# Altium footprint library SmartHalo_Footprints.PcbLib: 114 footprints (part 4 of 8)
Each footprint in its own frame and in the unit in brackets; x right, y up, seen from the top. Pads: shape width x height; smd on the part's side, far side on the other; paste and mask are expansions set on the pad; w line width, h text height; cw(c..) or ccw(c..) is an arc to the next point about the centre after c.
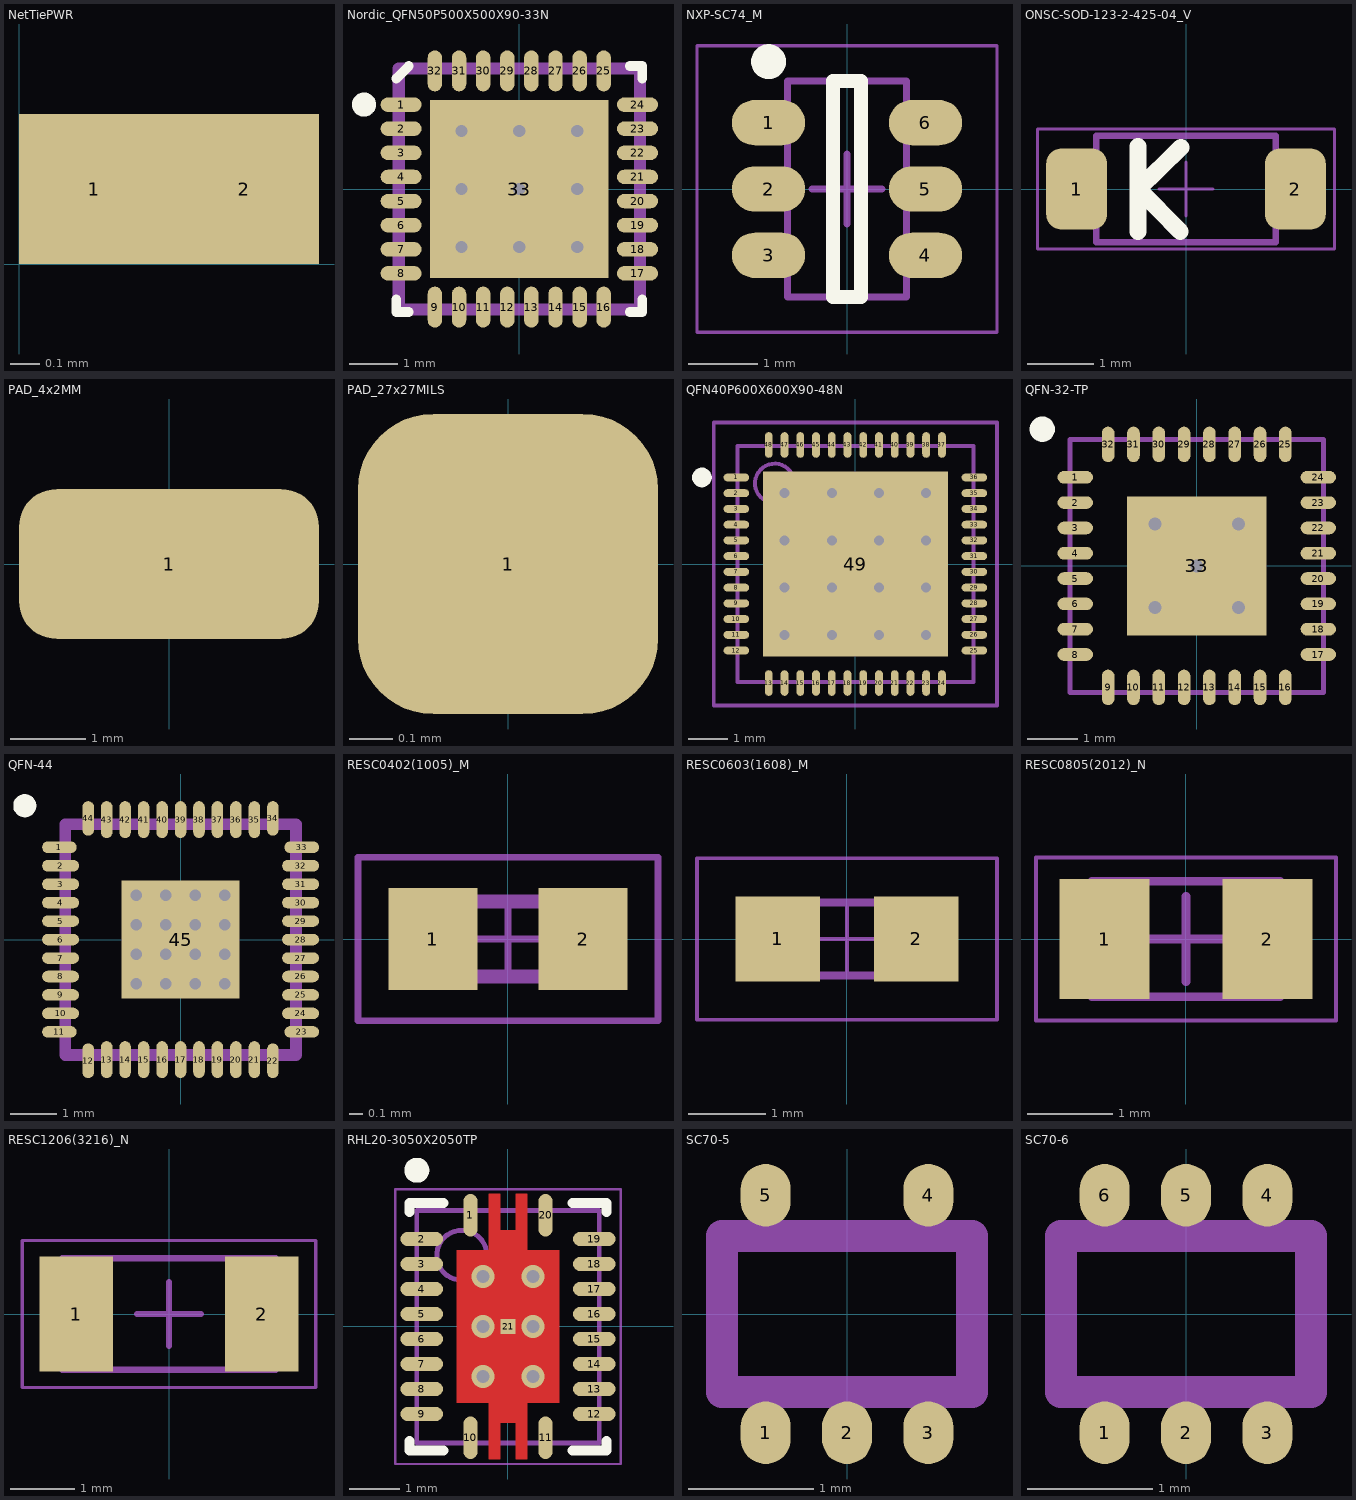
[diagram p3: the footprints below, top view; thin cyan lines are the x and y axes]

## NetTiePWR [mil] "NetTie for Power Nets"
pads (2):
  rect 20x20 smd paste-10 mask+0: 1(10,10) 2(30,10)

## Nordic_QFN50P500X500X90-33N [mm] "QFN, 32-Leads, Body 5.0x5.0mm, Pitch 0.5mm, Thermal Pad 3.6x3.6mm"
height 0.85
pads (33):
  oval 0.85x0.3 smd mask+0.076: 1(-2.45,1.75) 2(-2.45,1.25) 3(-2.45,0.75) 4(-2.45,0.25) 5(-2.45,-0.25) 6(-2.45,-0.75) 7(-2.45,-1.25) 8(-2.45,-1.75) 17(2.45,-1.75) 18(2.45,-1.25) 19(2.45,-0.75) 20(2.45,-0.25) 21(2.45,0.25) 22(2.45,0.75) 23(2.45,1.25) 24(2.45,1.75)
  oval 0.3x0.85 smd mask+0.076: 9(-1.75,-2.45) 10(-1.25,-2.45) 11(-0.75,-2.45) 12(-0.25,-2.45) 13(0.25,-2.45) 14(0.75,-2.45) 15(1.25,-2.45) 16(1.75,-2.45) 25(1.75,2.45) 26(1.25,2.45) 27(0.75,2.45) 28(0.25,2.45) 29(-0.25,2.45) 30(-0.75,2.45) 31(-1.25,2.45) 32(-1.75,2.45)
  rect 3.7x3.7 smd mask+0: 33(0,0)
via 0,1.2 diameter 0.457 hole 0.254
via -1.2,1.2 diameter 0.457 hole 0.254
via -1.2,0 diameter 0.457 hole 0.254
via -1.2,-1.2 diameter 0.457 hole 0.254
via 0,-1.2 diameter 0.457 hole 0.254
via 1.2,-1.2 diameter 0.457 hole 0.254
via 1.2,0 diameter 0.457 hole 0.254
via 1.2,1.2 diameter 0.457 hole 0.254
via 0,0 diameter 0.457 hole 0.254
Top Overlay:
  circle w0.25: c-3.22,1.75 r0.125
  lines w0.2: -2.55,-2.29 -2.55,-2.55 -2.29,-2.55 ; -2.55,2.29 -2.29,2.55 ; 2.29,-2.55 2.55,-2.55 2.55,-2.29 ; 2.29,2.55 2.55,2.55 2.55,2.29
3D Top:
  lines w0.254: -2.5,-2.5 2.5,-2.5 2.5,2.5 -2.5,2.5 -2.5,-2.5
3D body: height 0.85, standoff 0, extent -2.5,-2.5 2.5,2.5

## NXP-SC74_M [mm] "SOT23, 6-Leads, Body 2.9x1.6mm, Pitch 0.95mm, IPC Low Density"
height 1.1
pads (6):
  oval 1.05x0.65 smd: 1(-1.125,0.95) 2(-1.125,0) 3(-1.125,-0.95) 4(1.125,-0.95) 5(1.125,0) 6(1.125,0.95)
Top Overlay:
  circle w0.25: c-1.125,1.825 r0.125
  lines w0.2: -0.2,-1.55 -0.2,1.55 0.2,1.55 0.2,-1.55 -0.2,-1.55
3D Top:
  lines w0.1: -0.85,-1.55 0.85,-1.55 0.85,1.55 -0.85,1.55 -0.85,-1.55
Courtyard Top:
  lines w0.05: -2.15,-2.05 2.15,-2.05 2.15,2.05 -2.15,2.05 -2.15,-2.05
  lines w0.1: -0.5,0 0.5,0 ; 0,-0.5 0,0.5
3D body: height 1.1, standoff 0.1, extent -0.85,-1.55 0.85,1.55

## ONSC-SOD-123-2-425-04_V [mil] "Schottky Power Rectifier, 2-Pin SOD-123, Pb-Free, Tape and Reel"
height 46
pads (2):
  rrect50% 36x48 smd: 1(-64.5,0) 2(64.5,0)
Top Overlay:
  lines w10: -28.19,-25 -28.19,25 ; -3.39,-25 -28,0 -3,24.61
3D Top:
  lines w3.94: -53,-14 -73,-14 -73,14 -53,14 ; 52.99,-14.01 72.99,-14.01 72.99,13.99 52.99,13.99 ; -53,-31.5 -53,31.5 53,31.5 53,-31.5 -53,-31.5
Courtyard Top:
  lines w1.97: -15.75,0 15.75,0 ; 0,-15.75 0,15.75 ; -87.6,-35.43 87.6,-35.43 87.6,35.43 -87.6,35.43 -87.6,-35.43
3D body: height 6, standoff 0, extent 52.99,-14.01 72.99,13.99
3D body: height 6, standoff 0, extent -73,-14 -53,14
3D body: height 53, standoff 4, extent -52.85,-31.5 53.15,31.5

## PAD_4x2MM [mm] "Pad 4 x 2 mm"
pads (1):
  rrect50% 4x2 smd: 1(0,0)

## PAD_27x27MILS [mil] "Pad 27 x 27 mils"
pads (1):
  rrect50% 27x27 smd: 1(0,0)

## QFN40P600X600X90-48N [mm]
pads (49):
  oval 0.65x0.2 smd: 1(-3.025,2.2) 2(-3.025,1.8) 3(-3.025,1.4) 4(-3.025,1) 5(-3.025,0.6) 6(-3.025,0.2) 7(-3.025,-0.2) 8(-3.025,-0.6) 9(-3.025,-1) 10(-3.025,-1.4) 11(-3.025,-1.8) 12(-3.025,-2.2) 25(3.025,-2.2) 26(3.025,-1.8) 27(3.025,-1.4) 28(3.025,-1) 29(3.025,-0.6) 30(3.025,-0.2) 31(3.025,0.2) 32(3.025,0.6) 33(3.025,1) 34(3.025,1.4) 35(3.025,1.8) 36(3.025,2.2)
  oval 0.2x0.65 smd: 13(-2.2,-3.025) 14(-1.8,-3.025) 15(-1.4,-3.025) 16(-1,-3.025) 17(-0.6,-3.025) 18(-0.2,-3.025) 19(0.2,-3.025) 20(0.6,-3.025) 21(1,-3.025) 22(1.4,-3.025) 23(1.8,-3.025) 24(2.2,-3.025) 37(2.2,3.025) 38(1.8,3.025) 39(1.4,3.025) 40(1,3.025) 41(0.6,3.025) 42(0.2,3.025) 43(-0.2,3.025) 44(-0.6,3.025) 45(-1,3.025) 46(-1.4,3.025) 47(-1.8,3.025) 48(-2.2,3.025)
  rect 4.7x4.7 smd: 49(0,0)
via -1.8,1.8 diameter 0.457 hole 0.254
via -0.6,1.8 diameter 0.457 hole 0.254
via 0.6,1.8 diameter 0.457 hole 0.254
via 1.8,1.8 diameter 0.457 hole 0.254
via -1.8,0.6 diameter 0.457 hole 0.254
via -0.6,0.6 diameter 0.457 hole 0.254
via 0.6,0.6 diameter 0.457 hole 0.254
via 1.8,0.6 diameter 0.457 hole 0.254
via -1.8,-0.6 diameter 0.457 hole 0.254
via -0.6,-0.6 diameter 0.457 hole 0.254
via 0.6,-0.6 diameter 0.457 hole 0.254
via 1.8,-0.6 diameter 0.457 hole 0.254
via -1.8,-1.8 diameter 0.457 hole 0.254
via -0.6,-1.8 diameter 0.457 hole 0.254
via 0.6,-1.8 diameter 0.457 hole 0.254
via 1.8,-1.8 diameter 0.457 hole 0.254
Top Overlay:
  circle w0.25: c-3.9,2.2 r0.125
3D Top:
  circle w0.1: c-2.05,2.05 r0.5
  lines w0.1: -3,-3 -3,3 3,3 3,-3 -3,-3
Courtyard Top:
  lines w0.1: -0.5,0 0.5,0 ; 0,-0.5 0,0.5 ; -3.6,-3.6 -3.6,3.6 3.6,3.6 3.6,-3.6 -3.6,-3.6
3D body: height 0.9, standoff 0, extent -3,-3 3,3

## QFN-32-TP [mm] "QFN-32, 5.0 x 5.0 x 1.0 mm body, 0.25 x 0.7 mm pads, 2.75 x 2.75 thermal pad"
height 1
pads (33):
  oval 0.7x0.25 smd mask+0.051: 1(-2.4,1.75) 2(-2.4,1.25) 3(-2.4,0.75) 4(-2.4,0.25) 5(-2.4,-0.25) 6(-2.4,-0.75) 7(-2.4,-1.25) 8(-2.4,-1.75) 17(2.4,-1.75) 18(2.4,-1.25) 19(2.4,-0.75) 20(2.4,-0.25) 21(2.4,0.25) 22(2.4,0.75) 23(2.4,1.25) 24(2.4,1.75)
  oval 0.25x0.7 smd mask+0.051: 9(-1.75,-2.4) 10(-1.25,-2.4) 11(-0.75,-2.4) 12(-0.25,-2.4) 13(0.25,-2.4) 14(0.75,-2.4) 15(1.25,-2.4) 16(1.75,-2.4) 25(1.75,2.4) 26(1.25,2.4) 27(0.75,2.4) 28(0.25,2.4) 29(-0.25,2.4) 30(-0.75,2.4) 31(-1.25,2.4) 32(-1.75,2.4)
  rect 2.75x2.75 smd mask+0.051: 33(0,0)
via -0.825,0.825 diameter 0.457 hole 0.254
via 0.825,0.825 diameter 0.457 hole 0.254
via 0,0 diameter 0.457 hole 0.254
via -0.825,-0.825 diameter 0.457 hole 0.254
via 0.825,-0.825 diameter 0.457 hole 0.254
Top Overlay:
  circle w0.25: c-3.05,2.7 r0.125
3D Top:
  lines w0.1: -2.5,-2.5 -2.5,2.5 2.5,2.5 2.5,-2.5 -2.5,-2.5
3D body: height 1, standoff 0, extent -2.5,-2.5 2.5,2.5

## QFN-44 [mm] "QFN-44, 5 x 5 x 0.8 mm body, 0.25 x 0.8 mm pads, 0.4 pin pitch, 2.55 x 2.55 mm thermal pad"
height 0.8
pads (45):
  oval 0.75x0.25 smd mask+0.064: 1(-2.625,2) 11(-2.625,-2) 23(2.625,-2) 33(2.625,2)
  oval 0.8x0.25 smd mask+0.064: 2(-2.6,1.6) 3(-2.6,1.2) 4(-2.6,0.8) 5(-2.6,0.4) 6(-2.6,0) 7(-2.6,-0.4) 8(-2.6,-0.8) 9(-2.6,-1.2) 10(-2.6,-1.6) 24(2.6,-1.6) 25(2.6,-1.2) 26(2.6,-0.8) 27(2.6,-0.4) 28(2.6,0) 29(2.6,0.4) 30(2.6,0.8) 31(2.6,1.2) 32(2.6,1.6)
  oval 0.25x0.75 smd mask+0.064: 12(-2,-2.625) 22(2,-2.625) 34(2,2.625) 44(-2,2.625)
  oval 0.25x0.8 smd mask+0.064: 13(-1.6,-2.6) 14(-1.2,-2.6) 15(-0.8,-2.6) 16(-0.4,-2.6) 17(0,-2.6) 18(0.4,-2.6) 19(0.8,-2.6) 20(1.2,-2.6) 21(1.6,-2.6) 35(1.6,2.6) 36(1.2,2.6) 37(0.8,2.6) 38(0.4,2.6) 39(0,2.6) 40(-0.4,2.6) 41(-0.8,2.6) 42(-1.2,2.6) 43(-1.6,2.6)
  rect 2.55x2.55 smd: 45(0,0)
via 0.319,-0.319 diameter 0.457 hole 0.254
via 0.958,-0.319 diameter 0.457 hole 0.254
via 0.319,-0.958 diameter 0.457 hole 0.254
via -0.319,-0.958 diameter 0.457 hole 0.254
via 0.958,-0.958 diameter 0.457 hole 0.254
via 0.319,0.319 diameter 0.457 hole 0.254
via -0.319,0.319 diameter 0.457 hole 0.254
via -0.958,-0.319 diameter 0.457 hole 0.254
via -0.958,0.319 diameter 0.457 hole 0.254
via -0.319,0.958 diameter 0.457 hole 0.254
via 0.319,0.958 diameter 0.457 hole 0.254
via 0.958,0.319 diameter 0.457 hole 0.254
via -0.319,-0.319 diameter 0.457 hole 0.254
via -0.958,-0.958 diameter 0.457 hole 0.254
via 0.958,0.958 diameter 0.457 hole 0.254
via -0.958,0.958 diameter 0.457 hole 0.254
Top Overlay:
  circle w0.25: c-3.375,2.9 r0.125
3D Top:
  lines w0.254: -2.5,-2.5 -2.5,2.5 2.5,2.5 2.5,-2.5 -2.5,-2.5
3D body: height 0.8, standoff 0.08, extent -2.5,-2.5 2.5,2.5

## RESC0402(1005)_M [mm] "Chip Resistor, Body 1.0x0.5mm, IPC Low Density"
height 0.4
pads (2):
  rect 0.65x0.75 smd: 1(-0.55,0) 2(0.55,0)
3D Top:
  lines w0.1: -0.525,-0.275 -0.525,0.275 0.525,0.275 0.525,-0.275 -0.525,-0.275
Courtyard Top:
  lines w0.05: -0.275,0 0.275,0 ; 0,-0.275 0,0.275 ; -1.1,-0.6 -1.1,0.6 1.1,0.6 1.1,-0.6 -1.1,-0.6
3D body: height 0.4, standoff 0, extent -0.525,-0.275 -0.3,0.275
3D body: height 0.4, standoff 0, extent -0.3,-0.275 0.3,0.275
3D body: height 0.4, standoff 0, extent 0.3,-0.275 0.525,0.275

## RESC0603(1608)_M [mm] "Chip Resistor, Body 1.6x0.8mm, IPC Low Density"
height 0.6
pads (2):
  rect 1.1x1.1 smd: 1(-0.9,0) 2(0.9,0)
3D Top:
  lines w0.1: -0.85,-0.475 -0.85,0.475 0.85,0.475 0.85,-0.475 -0.85,-0.475
Courtyard Top:
  lines w0.05: -0.475,0 0.475,0 ; 0,-0.475 0,0.475 ; -1.95,-1.05 -1.95,1.05 1.95,1.05 1.95,-1.05 -1.95,-1.05
3D body: height 0.6, standoff 0, extent -0.849,-0.474 -0.58,0.475
3D body: height 0.6, standoff 0, extent -0.58,-0.474 0.581,0.475
3D body: height 0.6, standoff 0, extent 0.581,-0.474 0.85,0.475

## RESC0805(2012)_N [mm] "Chip Resistor, Body 2.0x1.3mm, IPC Medium Density"
height 0.7
pads (2):
  rect 1.05x1.4 smd: 1(-0.95,0) 2(0.95,0)
3D Top:
  lines w0.1: -1.1,-0.675 -1.1,0.675 1.1,0.675 1.1,-0.675 -1.1,-0.675
Courtyard Top:
  lines w0.05: -1.75,-0.95 -1.75,0.95 1.75,0.95 1.75,-0.95 -1.75,-0.95
  lines w0.1: -0.5,0 0.5,0 ; 0,-0.5 0,0.5
3D body: height 0.7, standoff 0, extent 0.68,-0.675 1.1,0.675
3D body: height 0.7, standoff 0, extent -0.68,-0.675 0.68,0.675
3D body: height 0.7, standoff 0, extent -1.1,-0.675 -0.68,0.675

## RESC1206(3216)_N [mm] "Chip Resistor, Body 3.2x1.6mm, IPC Medium Density"
height 0.75
pads (2):
  rect 1.15x1.8 smd: 1(-1.45,0) 2(1.45,0)
3D Top:
  lines w0.1: -1.675,-0.875 1.675,-0.875 1.675,0.875 -1.675,0.875 -1.675,-0.875
Courtyard Top:
  lines w0.05: -2.3,-1.15 2.3,-1.15 2.3,1.15 -2.3,1.15 -2.3,-1.15
  lines w0.1: -0.5,0 0.5,0 ; 0,-0.5 0,0.5
3D body: height 0.75, standoff 0, extent 1.181,-0.874 1.675,0.875
3D body: height 0.75, standoff 0, extent -1.18,-0.874 1.181,0.875
3D body: height 0.75, standoff 0, extent -1.674,-0.874 -1.18,0.875

## RHL20-3050X2050TP [mm] "QFN, 20-Leads, Body 4.5x3.5mm, Pitch 0.5mm, Thermal Pad 3.05x2.05mm, TI Recommended"
height 1
pads (21):
  oval 0.28x0.85 smd paste-0.025 mask+0.07: 1(-0.75,2.225) 10(-0.75,-2.225) 11(0.75,-2.225) 20(0.75,2.225)
  oval 0.85x0.28 smd paste-0.025 mask+0.07: 2(-1.725,1.75) 3(-1.725,1.25) 4(-1.725,0.75) 5(-1.725,0.25) 6(-1.725,-0.25) 7(-1.725,-0.75) 8(-1.725,-1.25) 9(-1.725,-1.75) 12(1.725,-1.75) 13(1.725,-1.25) 14(1.725,-0.75) 15(1.725,-0.25) 16(1.725,0.25) 17(1.725,0.75) 18(1.725,1.25) 19(1.725,1.75)
  rect 0.3x0.3 smd paste-0.15 mask+0: 21(0,0)
via 0.5,-1 diameter 0.457 hole 0.254
via 0.5,0 diameter 0.457 hole 0.254
via 0.5,1 diameter 0.457 hole 0.254
via -0.5,-1 diameter 0.457 hole 0.254
via -0.5,0 diameter 0.457 hole 0.254
via -0.5,1 diameter 0.457 hole 0.254
Top Layer:
  region: 0.16,2.65 0.16,1.925 -0.16,1.925 -0.16,2.65 -0.39,2.65 -0.39,1.525 -1.025,1.525 -1.025,-1.525 -0.39,-1.525 -0.39,-2.65 -0.16,-2.65 -0.16,-1.925 0.16,-1.925 0.16,-2.65 0.39,-2.65 0.39,-1.525 1.025,-1.525 1.025,1.525 0.39,1.525 0.39,2.65
Top Overlay:
  circle w0.25: c-1.825,3.125 r0.125
  lines w0.2: -1.975,-2.29 -1.975,-2.475 -1.29,-2.475 ; -1.975,2.29 -1.975,2.475 -1.29,2.475 ; 1.29,-2.475 1.975,-2.475 1.975,-2.29 ; 1.29,2.475 1.975,2.475 1.975,2.29
Top Paste:
  region: 0.15,1.47 0.15,0.15 0.97,0.15 0.97,1.47
  region: 0.97,-1.47 0.97,-0.15 0.15,-0.15 0.15,-1.47
  region: -0.15,-1.47 -0.15,-0.15 -0.97,-0.15 -0.97,-1.47
  region: -0.97,1.47 -0.97,0.15 -0.15,0.15 -0.15,1.47
  region: 0.39,-2.625 0.39,-1.725 0.16,-1.725 0.16,-2.625
  region: 0.16,2.625 0.16,1.725 0.39,1.725 0.39,2.625
  region: -0.16,-2.625 -0.16,-1.725 -0.39,-1.725 -0.39,-2.625
  region: -0.39,2.625 -0.39,1.725 -0.16,1.725 -0.16,2.625
3D Top:
  circle w0.1: c-0.925,1.425 r0.5
  lines w0.1: -1.825,-2.325 -1.825,2.325 1.825,2.325 1.825,-2.325 -1.825,-2.325
Courtyard Top:
  lines w0.05: -2.25,-2.75 -2.25,2.75 2.25,2.75 2.25,-2.75 -2.25,-2.75
  lines w0.1: -0.5,0 0.5,0 ; 0,-0.5 0,0.5
3D body: height 1, standoff 0, extent -1.825,-2.325 1.825,2.325

## SC70-5 [mm] "SC70-5, 0.4 x 0.5 mm pads, 0.65 x 1.9 mm pitch"
height 1.1
pads (5):
  oval 0.4x0.5 smd mask+0.051: 1(-0.65,-0.95) 2(0,-0.95) 3(0.65,-0.95) 4(0.65,0.95) 5(-0.65,0.95)
3D Top:
  lines w0.254: -1,-0.625 -1,0.625 1,0.625 1,-0.625 -1,-0.625
3D body: height 1.1, standoff 0.1, extent -1,-0.625 1,0.625

## SC70-6 [mm] "SC70-6, 0.4 x 0.5 mm pads, 0.65 x 1.9 mm pitch"
height 1.1
pads (6):
  oval 0.4x0.5 smd mask+0.051: 1(-0.65,-0.95) 2(0,-0.95) 3(0.65,-0.95) 4(0.65,0.95) 5(0,0.95) 6(-0.65,0.95)
3D Top:
  lines w0.254: -1,-0.625 1,-0.625 1,0.625 -1,0.625 -1,-0.625
3D body: height 1.1, standoff 0.1, extent -1,-0.625 1,0.625